# EAGLE library part MM74HC595 (library open-ephys)
The MM74HC595 high-speed shift register possesses the high noise immunity and low power consumption of standard CMOS ICs, as well as the ability to drive 15 LS-TTL loads.
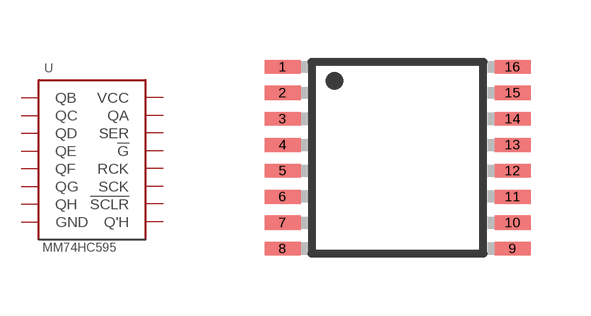
[diagram p16: symbol with the pads of TSSOP16; footprint TSSOP16]

Designator prefix U

## MM74HC595MM74HC595  [TSSOP16]
1  QB  out
2  QC  out
3  QD  out
4  QE  out
5  QF  out
6  QG  out
7  QH  out
8  GND  pwr
9  Q'H  out
10  !SCLR
11  SCK  in
12  RCK  in
13  !G
14  SER  in
15  QA  out
16  VCC  pwr

## Footprint TSSOP16 (pad centres in mm)
16-Lead Thin Shrink Small Outline Package [TSSOP] (RU-16) Source: 8x ADG1408_1409.pdf
smd 0.9 x 0.35: 1 -2.875,2.275; 2 -2.875,1.625; 3 -2.875,0.975; 4 -2.875,0.325; 5 -2.875,-0.325; 6 -2.875,-0.975; 7 -2.875,-1.625; 8 -2.875,-2.275; 9 2.875,-2.275; 10 2.875,-1.625; 11 2.875,-0.975; 12 2.875,-0.325; 13 2.875,0.325; 14 2.875,0.975; 15 2.875,1.625; 16 2.875,2.275